# Altium schematic symbol library SYM-Module.SchLib: 3 symbols
Pins are listed as number, name and electrical type; pins without a type are passive.

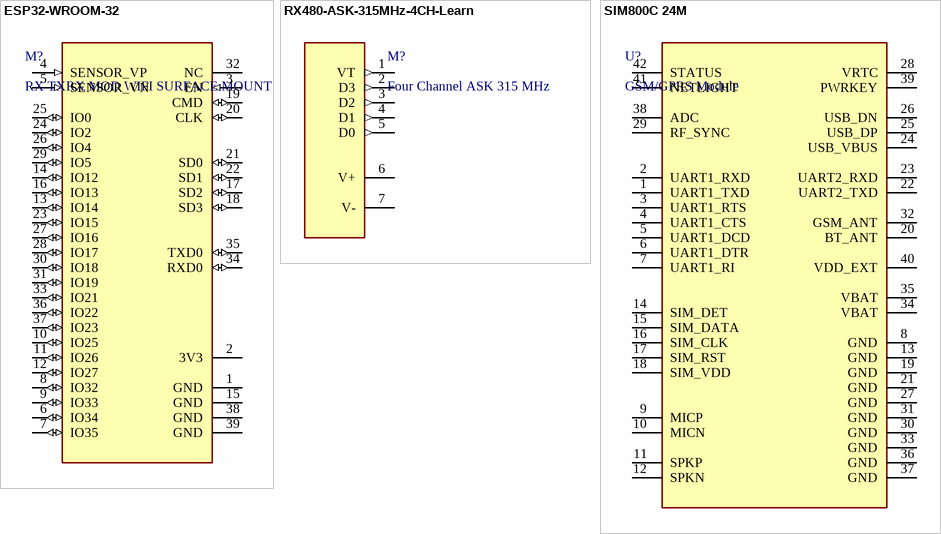
[diagram p0: symbols ESP32-WROOM-32 to SIM800C 24M]

## ESP32-WROOM-32
designator M?, comment RX TXRX MOD WIFI SURFACE MOUNT
Bluetooth and Wi-Fi Module 2.4GHz to 2.5GHz 2.7V to 3.6V 38-Pin SMD Module; Manufacturer: Espressif Systems; Manufacturer Part Number: ESP32-WROOM-32; Data Rate: 150Mbps; Sensitivity: -98dBm; Supplier 1: Digi-Key; RoHS: No; Category: RF Receivers, Transceivers; Pricing 1: 1=0/00000 (USD); Mount: Surface Mount; Case/Package: SMD/SMT; Weight: 0.088185oz; Min Operating Temperature: -40°C; Max Operating Temperature: 85°C; Packaging: Cut Tape; Frequency: 2.5GHz; Package Quantity: 550; Operating Supply Voltage: 3.6V; ComponentLink1URL: https://datasheet.ciiva.com/70828/esp32-wroom-32-datasheet-en-70828769.pdf?src-supplier=Digi-Key; ComponentLink1Description: https://datasheet.ciiva.com/70828/esp32-wroom-32-datasheet-en-70828769.pdf?src-supplier=Digi-Key; ComponentLink2URL: https://datasheet.ciiva.com/69725/esp32-datasheet-en-69725253.pdf?src-supplier=Digi-Key; ComponentLink2Description: https://datasheet.ciiva.com/69725/esp32-datasheet-en-69725253.pdf?src-supplier=Digi-Key; Supplier Part Number 1: 1904-1010-1-ND
footprint ESP-WROOM-32 (25.5x18.0mm)
pins: 1 GND (power), 2 3V3 (power), 3 EN (in), 4 SENSOR_VP (in), 5 SENSOR_VN (in), 6 IO34 (io), 7 IO35 (io), 8 IO32 (io), 9 IO33 (io), 10 IO25 (io), 11 IO26 (io), 12 IO27 (io), 13 IO14 (io), 14 IO12 (io), 15 GND (power), 16 IO13 (io), 17 SD2 (io), 18 SD3 (io), 19 CMD (io), 20 CLK (io), 21 SD0 (io), 22 SD1 (io), 23 IO15 (io), 24 IO2 (io), 25 IO0 (io), 26 IO4 (io), 27 IO16 (io), 28 IO17 (io), 29 IO5 (io), 30 IO18 (io), 31 IO19 (io), 32 NC, 33 IO21 (io), 34 RXD0 (io), 35 TXD0 (io), 36 IO22 (io), 37 IO23 (io), 38 GND (power), 39 GND (power)

## RX480-ASK-315MHz-4CH-Learn
designator M?, comment Four Channel ASK 315 MHz
Learning Code (1527) Remote Control Key Fob.
footprint RX480-ASK-315MHZ-4CH
pins: 1 VT (out), 2 D3 (out), 3 D2 (out), 4 D1 (out), 5 D0 (out), 6 V+ (power), 7 V- (power)

## SIM800C 24M
designator U?, comment GSM/GPRS Module
GSM/GPRS Module 850MHz/900MHz/1800MHz/1900MHz 3.4V to 4.4V LCC; Manufacturer: Simcom; Manufacturer Part Number: SIM800C24M; Supplier 1: Avnet; RoHS: No; Pricing 1: 50=9/30000, 100=8/70000, 200=8/10000, 300=7/80000, 400=7/50000 (USD); Supplier Part Number 1: SIM800C 24M
footprint SIM800C
pins: 1 UART1_TXD, 2 UART1_RXD, 3 UART1_RTS, 4 UART1_CTS, 5 UART1_DCD, 6 UART1_DTR, 7 UART1_RI, 8 GND (power), 9 MICP, 10 MICN, 11 SPKP, 12 SPKN, 13 GND (power), 14 SIM_DET, 15 SIM_DATA, 16 SIM_CLK, 17 SIM_RST, 18 SIM_VDD, 19 GND (power), 20 BT_ANT, 21 GND (power), 22 UART2_TXD, 23 UART2_RXD, 24 USB_VBUS, 25 USB_DP, 26 USB_DN, 27 GND (power), 28 VRTC, 29 RF_SYNC, 30 GND (power), 31 GND (power), 32 GSM_ANT, 33 GND (power), 34 VBAT (power), 35 VBAT (power), 36 GND (power), 37 GND (power), 38 ADC, 39 PWRKEY, 40 VDD_EXT, 41 NETLIGHT, 42 STATUS